# Altium footprint library Detectors.PcbLib: 58 footprints (part 3 of 4)
Each footprint in its own frame and in the unit in brackets; x right, y up, seen from the top. Pads: shape width x height; smd on the part's side, far side on the other; paste and mask are expansions set on the pad; w line width, h text height; cw(c..) or ccw(c..) is an arc to the next point about the centre after c.
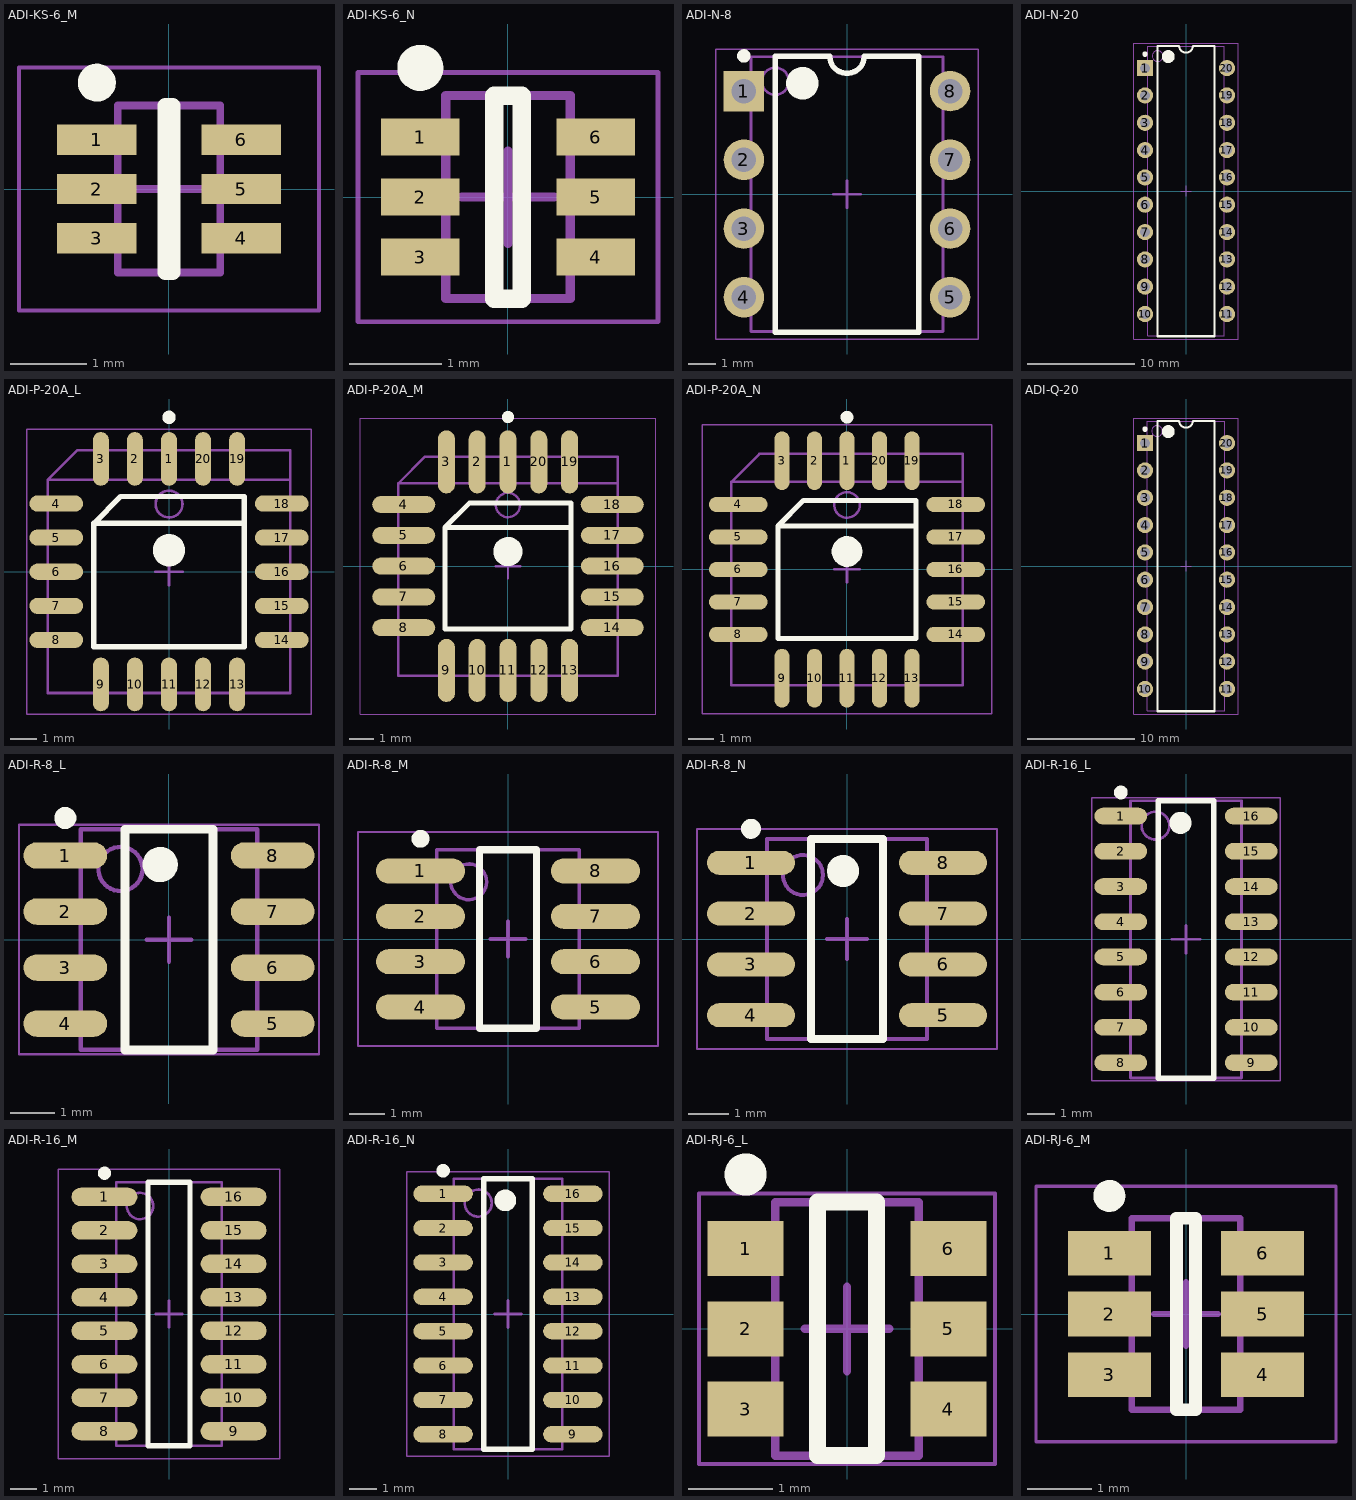
[diagram p2: the footprints below, top view; thin cyan lines are the x and y axes]

## ADI-KS-6_M [mm] "SOT363, 6-Leads, Body 2x1.3mm, Pitch 0.65mm, Lead Span 2.1mm, IPC Low Density"
height 1.1
pads (6):
  rect 1.05x0.4 smd: 1(-0.95,0.65) 2(-0.95,0) 3(-0.95,-0.65) 4(0.95,-0.65) 5(0.95,0) 6(0.95,0.65)
Top Overlay:
  circle w0.25: c-0.95,1.4 r0.125
  lines w0.2: -0.05,-1.1 0.05,-1.1 0.05,1.1 -0.05,1.1 -0.05,-1.1
Mechanical 13:
  lines w0.1: -0.675,-1.1 -0.675,1.1 0.675,1.1 0.675,-1.1 -0.675,-1.1
Mechanical 15:
  lines w0.05: -1.975,-1.6 -1.975,1.6 1.975,1.6 1.975,-1.6 -1.975,-1.6
  lines w0.1: -0.5,0 0.5,0 ; 0,-0.5 0,0.5
3D body: height 1.1, standoff 0, extent -0.675,-1.1 0.675,1.1

## ADI-KS-6_N [mm] "SOT363, 6-Leads, Body 2x1.3mm, Pitch 0.65mm, Lead Span 2.1mm, IPC Medium Density"
height 1.1
pads (6):
  rect 0.85x0.4 smd: 1(-0.95,0.65) 2(-0.95,0) 3(-0.95,-0.65) 4(0.95,-0.65) 5(0.95,0) 6(0.95,0.65)
Top Overlay:
  circle w0.25: c-0.95,1.4 r0.125
  lines w0.2: -0.15,-1.1 -0.15,1.1 0.15,1.1 0.15,-1.1 -0.15,-1.1
Mechanical 13:
  lines w0.1: -0.675,-1.1 0.675,-1.1 0.675,1.1 -0.675,1.1 -0.675,-1.1
Mechanical 15:
  lines w0.05: -1.625,-1.35 1.625,-1.35 1.625,1.35 -1.625,1.35 -1.625,-1.35
  lines w0.1: -0.5,0 0.5,0 ; 0,-0.5 0,0.5
3D body: height 1.1, standoff 0, extent -0.675,-1.1 0.675,1.1

## ADI-N-8 [mm] "DIP, 8-Leads, Row Spacing 7.62mm, Pitch 2.54mm, Body 9.6x6.6mm"
height 5.33
pads (8):
  rect 1.5x1.5 hole 0.9: 1(-3.81,3.81)
  round 1.5 hole 0.9: 2(-3.81,1.27) 3(-3.81,-1.27) 4(-3.81,-3.81) 5(3.81,-3.81) 6(3.81,-1.27) 7(3.81,1.27) 8(3.81,3.81)
Top Overlay:
  circle w0.25: c-3.81,5.11 r0.125
  circle w0.6: c-1.65,4.1 r0.3
  lines w0.2: -2.65,-5.1 -2.65,5.1 -0.635,5.1 ccw(c0,5.1) 0.635,5.1 2.65,5.1 2.65,-5.1 -2.65,-5.1
Mechanical 13:
  circle w0.1: c-2.65,4.175 r0.5
  lines w0.1: -3.55,-5.075 -3.55,5.075 3.55,5.075 3.55,-5.075 -3.55,-5.075
Mechanical 15:
  lines w0.05: -4.85,-5.35 -4.85,5.35 4.85,5.35 4.85,-5.35 -4.85,-5.35
  lines w0.1: -0.5,0 0.5,0 ; 0,-0.5 0,0.5
3D body: height 5.33, standoff 0.38, extent -3.55,-5.075 3.55,5.075

## ADI-N-20 [mm] "DIP, 20-Leads, Row Spacing 7.62mm, Pitch 2.54mm, Body 25.9x6.6mm"
height 5.33
pads (20):
  rect 1.5x1.5 hole 0.9: 1(-3.81,11.43)
  round 1.5 hole 0.9: 2(-3.81,8.89) 3(-3.81,6.35) 4(-3.81,3.81) 5(-3.81,1.27) 6(-3.81,-1.27) 7(-3.81,-3.81) 8(-3.81,-6.35) 9(-3.81,-8.89) 10(-3.81,-11.43) 11(3.81,-11.43) 12(3.81,-8.89) 13(3.81,-6.35) 14(3.81,-3.81) 15(3.81,-1.27) 16(3.81,1.27) 17(3.81,3.81) 18(3.81,6.35) 19(3.81,8.89) 20(3.81,11.43)
Top Overlay:
  circle w0.6: c-1.65,12.5 r0.3
  circle w0.25: c-3.81,12.73 r0.125
  lines w0.2: -2.65,-13.5 2.65,-13.5 2.65,13.5 0.635,13.5 cw(c0,13.5) -0.635,13.5 -2.65,13.5 -2.65,-13.5
Mechanical 13:
  circle w0.1: c-2.65,12.55 r0.5
  lines w0.1: -3.55,-13.45 3.55,-13.45 3.55,13.45 -3.55,13.45 -3.55,-13.45
Mechanical 15:
  lines w0.05: -4.85,-13.75 4.85,-13.75 4.85,13.75 -4.85,13.75 -4.85,-13.75
  lines w0.1: -0.5,0 0.5,0 ; 0,-0.5 0,0.5
3D body: height 5.33, standoff 0.38, extent -3.55,-13.45 3.55,13.45

## ADI-P-20A_L [mm] "Leaded Chip Carrier, 20-Leads, Body 9x9mm, Pitch 1.27mm, IPC High Density"
height 4.58
pads (20):
  oval 0.6x2 smd: 1(0,4.2) 2(-1.27,4.2) 3(-2.54,4.2) 9(-2.54,-4.2) 10(-1.27,-4.2) 11(0,-4.2) 12(1.27,-4.2) 13(2.54,-4.2) 19(2.54,4.2) 20(1.27,4.2)
  oval 2x0.6 smd: 4(-4.2,2.54) 5(-4.2,1.27) 6(-4.2,0) 7(-4.2,-1.27) 8(-4.2,-2.54) 14(4.2,-2.54) 15(4.2,-1.27) 16(4.2,0) 17(4.2,1.27) 18(4.2,2.54)
Top Overlay:
  circle w0.6: c0,0.8 r0.3
  circle w0.25: c0,5.75 r0.125
  lines w0.2: 2.8,1.8 -2.8,1.8 ; -2.8,1.8 -2.8,-2.8 2.8,-2.8 2.8,2.8 -1.8,2.8 -2.8,1.8
Mechanical 13:
  circle w0.1: c0,2.52 r0.5
  lines w0.1: 4.52,3.42 -4.52,3.42 ; -4.52,3.42 -3.42,4.52 4.52,4.52 4.52,-4.52 -4.52,-4.52 -4.52,3.42
Mechanical 15:
  lines w0.05: -5.3,-5.3 5.3,-5.3 5.3,5.3 -5.3,5.3 -5.3,-5.3
  lines w0.1: -0.5,0 0.5,0 ; 0,-0.5 0,0.5
3D body: height 4.58, standoff 0.64, extent -4.52,-4.52 4.52,4.52

## ADI-P-20A_M [mm] "Leaded Chip Carrier, 20-Leads, Body 9x9mm, Pitch 1.27mm, IPC Low Density"
height 4.58
pads (20):
  oval 0.7x2.6 smd: 1(0,4.3) 2(-1.27,4.3) 3(-2.54,4.3) 9(-2.54,-4.3) 10(-1.27,-4.3) 11(0,-4.3) 12(1.27,-4.3) 13(2.54,-4.3) 19(2.54,4.3) 20(1.27,4.3)
  oval 2.6x0.7 smd: 4(-4.3,2.54) 5(-4.3,1.27) 6(-4.3,0) 7(-4.3,-1.27) 8(-4.3,-2.54) 14(4.3,-2.54) 15(4.3,-1.27) 16(4.3,0) 17(4.3,1.27) 18(4.3,2.54)
Top Overlay:
  circle w0.6: c0,0.6 r0.3
  circle w0.25: c0,6.15 r0.125
  lines w0.2: 2.6,1.6 -2.6,1.6 ; -2.6,1.6 -2.6,-2.6 2.6,-2.6 2.6,2.6 -1.6,2.6 -2.6,1.6
Mechanical 13:
  circle w0.1: c0,2.52 r0.5
  lines w0.1: 4.52,3.42 -4.52,3.42 ; -4.52,3.42 -3.42,4.52 4.52,4.52 4.52,-4.52 -4.52,-4.52 -4.52,3.42
Mechanical 15:
  lines w0.05: -6.1,-6.1 6.1,-6.1 6.1,6.1 -6.1,6.1 -6.1,-6.1
  lines w0.1: -0.5,0 0.5,0 ; 0,-0.5 0,0.5
3D body: height 4.58, standoff 0.64, extent -4.52,-4.52 4.52,4.52

## ADI-P-20A_N [mm] "Leaded Chip Carrier, 20-Leads, Body 9x9mm, Pitch 1.27mm, IPC Medium Density"
height 4.58
pads (20):
  oval 0.6x2.3 smd: 1(0,4.25) 2(-1.27,4.25) 3(-2.54,4.25) 9(-2.54,-4.25) 10(-1.27,-4.25) 11(0,-4.25) 12(1.27,-4.25) 13(2.54,-4.25) 19(2.54,4.25) 20(1.27,4.25)
  oval 2.3x0.6 smd: 4(-4.25,2.54) 5(-4.25,1.27) 6(-4.25,0) 7(-4.25,-1.27) 8(-4.25,-2.54) 14(4.25,-2.54) 15(4.25,-1.27) 16(4.25,0) 17(4.25,1.27) 18(4.25,2.54)
Top Overlay:
  circle w0.6: c0,0.7 r0.3
  circle w0.25: c0,5.95 r0.125
  lines w0.2: 2.7,1.7 -2.7,1.7 ; -2.7,1.7 -2.7,-2.7 2.7,-2.7 2.7,2.7 -1.7,2.7 -2.7,1.7
Mechanical 13:
  circle w0.1: c0,2.52 r0.5
  lines w0.1: 4.52,3.42 -4.52,3.42 ; -4.52,3.42 -3.42,4.52 4.52,4.52 4.52,-4.52 -4.52,-4.52 -4.52,3.42
Mechanical 15:
  lines w0.05: -5.65,-5.65 5.65,-5.65 5.65,5.65 -5.65,5.65 -5.65,-5.65
  lines w0.1: -0.5,0 0.5,0 ; 0,-0.5 0,0.5
3D body: height 4.58, standoff 0.64, extent -4.52,-4.52 4.52,4.52

## ADI-Q-20 [mm] "DIP, 20-Leads, Row Spacing 7.62mm, Pitch 2.54mm, Body 25.9x6.7mm"
height 5.08
pads (20):
  rect 1.5x1.5 hole 0.9: 1(-3.81,11.43)
  round 1.5 hole 0.9: 2(-3.81,8.89) 3(-3.81,6.35) 4(-3.81,3.81) 5(-3.81,1.27) 6(-3.81,-1.27) 7(-3.81,-3.81) 8(-3.81,-6.35) 9(-3.81,-8.89) 10(-3.81,-11.43) 11(3.81,-11.43) 12(3.81,-8.89) 13(3.81,-6.35) 14(3.81,-3.81) 15(3.81,-1.27) 16(3.81,1.27) 17(3.81,3.81) 18(3.81,6.35) 19(3.81,8.89) 20(3.81,11.43)
Top Overlay:
  circle w0.6: c-1.65,12.5 r0.3
  circle w0.25: c-3.81,12.73 r0.125
  lines w0.2: -2.65,-13.5 2.65,-13.5 2.65,13.5 0.635,13.5 cw(c0,13.5) -0.635,13.5 -2.65,13.5 -2.65,-13.5
Mechanical 13:
  circle w0.1: c-2.7,12.55 r0.5
  lines w0.1: -3.6,-13.45 3.6,-13.45 3.6,13.45 -3.6,13.45 -3.6,-13.45
Mechanical 15:
  lines w0.05: -4.85,-13.75 4.85,-13.75 4.85,13.75 -4.85,13.75 -4.85,-13.75
  lines w0.1: -0.5,0 0.5,0 ; 0,-0.5 0,0.5
3D body: height 5.08, standoff 0.38, extent -3.6,-13.45 3.6,13.45

## ADI-R-8_L [mm] "SOIC, 8-Leads, Body 4.9x3.9mm, Pitch 1.27mm, IPC High Density"
height 1.75
pads (8):
  oval 1.9x0.6 smd: 1(-2.35,1.905) 2(-2.35,0.635) 3(-2.35,-0.635) 4(-2.35,-1.905) 5(2.35,-1.905) 6(2.35,-0.635) 7(2.35,0.635) 8(2.35,1.905)
Top Overlay:
  circle w0.25: c-2.35,2.755 r0.125
  circle w0.4: c-0.2,1.7 r0.2
  lines w0.2: -1,-2.5 -1,2.5 1,2.5 1,-2.5 -1,-2.5
Mechanical 13:
  circle w0.1: c-1.1,1.6 r0.5
  lines w0.1: -2,-2.5 -2,2.5 2,2.5 2,-2.5 -2,-2.5
Mechanical 15:
  lines w0.05: -3.4,-2.6 -3.4,2.6 3.4,2.6 3.4,-2.6 -3.4,-2.6
  lines w0.1: -0.5,0 0.5,0 ; 0,-0.5 0,0.5
3D body: height 1.75, standoff 0.1, extent -2,-2.5 2,2.5

## ADI-R-8_M [mm] "SOIC, 8-Leads, Body 4.9x3.9mm, Pitch 1.27mm, IPC Low Density"
height 1.75
pads (8):
  oval 2.5x0.7 smd: 1(-2.45,1.905) 2(-2.45,0.635) 3(-2.45,-0.635) 4(-2.45,-1.905) 5(2.45,-1.905) 6(2.45,-0.635) 7(2.45,0.635) 8(2.45,1.905)
Top Overlay:
  circle w0.25: c-2.45,2.805 r0.125
  lines w0.2: -0.8,-2.5 0.8,-2.5 0.8,2.5 -0.8,2.5 -0.8,-2.5
Mechanical 13:
  circle w0.1: c-1.1,1.6 r0.5
  lines w0.1: -2,-2.5 2,-2.5 2,2.5 -2,2.5 -2,-2.5
Mechanical 15:
  lines w0.05: -4.2,-3 4.2,-3 4.2,3 -4.2,3 -4.2,-3
  lines w0.1: -0.5,0 0.5,0 ; 0,-0.5 0,0.5
3D body: height 1.75, standoff 0.1, extent -2,-2.5 2,2.5

## ADI-R-8_N [mm] "SOIC, 8-Leads, Body 4.9x3.9mm, Pitch 1.27mm, IPC Medium Density"
height 1.75
pads (8):
  oval 2.2x0.6 smd: 1(-2.4,1.905) 2(-2.4,0.635) 3(-2.4,-0.635) 4(-2.4,-1.905) 5(2.4,-1.905) 6(2.4,-0.635) 7(2.4,0.635) 8(2.4,1.905)
Top Overlay:
  circle w0.25: c-2.4,2.755 r0.125
  circle w0.4: c-0.1,1.7 r0.2
  lines w0.2: -0.9,-2.5 -0.9,2.5 0.9,2.5 0.9,-2.5 -0.9,-2.5
Mechanical 13:
  circle w0.1: c-1.1,1.6 r0.5
  lines w0.1: -2,-2.5 -2,2.5 2,2.5 2,-2.5 -2,-2.5
Mechanical 15:
  lines w0.05: -3.75,-2.75 -3.75,2.75 3.75,2.75 3.75,-2.75 -3.75,-2.75
  lines w0.1: -0.5,0 0.5,0 ; 0,-0.5 0,0.5
3D body: height 1.75, standoff 0.1, extent -2,-2.5 2,2.5

## ADI-R-16_L [mm] "SOIC, 16-Leads, Body 9.9x3.9mm, Pitch 1.27mm, IPC High Density"
height 1.75
pads (16):
  oval 1.9x0.6 smd: 1(-2.35,4.445) 2(-2.35,3.175) 3(-2.35,1.905) 4(-2.35,0.635) 5(-2.35,-0.635) 6(-2.35,-1.905) 7(-2.35,-3.175) 8(-2.35,-4.445) 9(2.35,-4.445) 10(2.35,-3.175) 11(2.35,-1.905) 12(2.35,-0.635) 13(2.35,0.635) 14(2.35,1.905) 15(2.35,3.175) 16(2.35,4.445)
Top Overlay:
  circle w0.25: c-2.35,5.295 r0.125
  circle w0.4: c-0.2,4.2 r0.2
  lines w0.2: -1,-5 -1,5 1,5 1,-5 -1,-5
Mechanical 13:
  circle w0.1: c-1.1,4.1 r0.5
  lines w0.1: -2,-5 -2,5 2,5 2,-5 -2,-5
Mechanical 15:
  lines w0.05: -3.4,-5.1 -3.4,5.1 3.4,5.1 3.4,-5.1 -3.4,-5.1
  lines w0.1: -0.5,0 0.5,0 ; 0,-0.5 0,0.5
3D body: height 1.75, standoff 0.1, extent -2,-5 2,5

## ADI-R-16_M [mm] "SOIC, 16-Leads, Body 9.9x3.9mm, Pitch 1.27mm, IPC Low Density"
height 1.75
pads (16):
  oval 2.5x0.7 smd: 1(-2.45,4.445) 2(-2.45,3.175) 3(-2.45,1.905) 4(-2.45,0.635) 5(-2.45,-0.635) 6(-2.45,-1.905) 7(-2.45,-3.175) 8(-2.45,-4.445) 9(2.45,-4.445) 10(2.45,-3.175) 11(2.45,-1.905) 12(2.45,-0.635) 13(2.45,0.635) 14(2.45,1.905) 15(2.45,3.175) 16(2.45,4.445)
Top Overlay:
  circle w0.25: c-2.45,5.345 r0.125
  lines w0.2: -0.8,-5 -0.8,5 0.8,5 0.8,-5 -0.8,-5
Mechanical 13:
  circle w0.1: c-1.1,4.1 r0.5
  lines w0.1: -2,-5 -2,5 2,5 2,-5 -2,-5
Mechanical 15:
  lines w0.05: -4.2,-5.5 -4.2,5.5 4.2,5.5 4.2,-5.5 -4.2,-5.5
  lines w0.1: -0.5,0 0.5,0 ; 0,-0.5 0,0.5
3D body: height 1.75, standoff 0.1, extent -2,-5 2,5

## ADI-R-16_N [mm] "SOIC, 16-Leads, Body 9.9x3.9mm, Pitch 1.27mm, IPC Medium Density"
height 1.75
pads (16):
  oval 2.2x0.6 smd: 1(-2.4,4.445) 2(-2.4,3.175) 3(-2.4,1.905) 4(-2.4,0.635) 5(-2.4,-0.635) 6(-2.4,-1.905) 7(-2.4,-3.175) 8(-2.4,-4.445) 9(2.4,-4.445) 10(2.4,-3.175) 11(2.4,-1.905) 12(2.4,-0.635) 13(2.4,0.635) 14(2.4,1.905) 15(2.4,3.175) 16(2.4,4.445)
Top Overlay:
  circle w0.25: c-2.4,5.295 r0.125
  circle w0.4: c-0.1,4.2 r0.2
  lines w0.2: -0.9,-5 -0.9,5 0.9,5 0.9,-5 -0.9,-5
Mechanical 13:
  circle w0.1: c-1.1,4.1 r0.5
  lines w0.1: -2,-5 -2,5 2,5 2,-5 -2,-5
Mechanical 15:
  lines w0.05: -3.75,-5.25 -3.75,5.25 3.75,5.25 3.75,-5.25 -3.75,-5.25
  lines w0.1: -0.5,0 0.5,0 ; 0,-0.5 0,0.5
3D body: height 1.75, standoff 0.1, extent -2,-5 2,5

## ADI-RJ-6_L [mm] "SOT23, 6-Leads, Body 2.9x1.6mm, Pitch 0.95mm, Lead Span 2.8mm, IPC High Density"
height 1.45
pads (6):
  rect 0.9x0.65 smd: 1(-1.2,0.95) 2(-1.2,0) 3(-1.2,-0.95) 4(1.2,-0.95) 5(1.2,0) 6(1.2,0.95)
Top Overlay:
  circle w0.25: c-1.2,1.825 r0.125
  lines w0.2: -0.35,-1.5 -0.35,1.5 0.35,1.5 0.35,-1.5 -0.35,-1.5
Mechanical 13:
  lines w0.1: -0.85,-1.5 0.85,-1.5 0.85,1.5 -0.85,1.5 -0.85,-1.5
Mechanical 15:
  lines w0.05: -1.75,-1.6 1.75,-1.6 1.75,1.6 -1.75,1.6 -1.75,-1.6
  lines w0.1: -0.5,0 0.5,0 ; 0,-0.5 0,0.5
3D body: height 1.45, standoff 0.05, extent -0.85,-1.5 0.85,1.5

## ADI-RJ-6_M [mm] "SOT23, 6-Leads, Body 2.9x1.6mm, Pitch 0.95mm, Lead Span 2.8mm, IPC Low Density"
height 1.45
pads (6):
  rect 1.3x0.7 smd: 1(-1.2,0.95) 2(-1.2,0) 3(-1.2,-0.95) 4(1.2,-0.95) 5(1.2,0) 6(1.2,0.95)
Top Overlay:
  circle w0.25: c-1.2,1.85 r0.125
  lines w0.2: -0.15,-1.5 -0.15,1.5 0.15,1.5 0.15,-1.5 -0.15,-1.5
Mechanical 13:
  lines w0.1: -0.85,-1.5 0.85,-1.5 0.85,1.5 -0.85,1.5 -0.85,-1.5
Mechanical 15:
  lines w0.05: -2.35,-2 2.35,-2 2.35,2 -2.35,2 -2.35,-2
  lines w0.1: -0.5,0 0.5,0 ; 0,-0.5 0,0.5
3D body: height 1.45, standoff 0.05, extent -0.85,-1.5 0.85,1.5